# EAGLE library part TL074HIDYYR (library SamacSys_Parts)
Operational Amplifiers - Op Amps Quad, 40-V, 5-MHz, 4-mV offset voltage, 20-V/us, In to V+ op amp with -40 C to 125 C operation Source: Datasheet <https://www.ti.com/lit/ds/symlink/tl074.pdf?HQS=dis-mous-null-mousermode-dsf-pf-null-wwe&ts=1653289518838&ref_url=https%3A%2F%2Fwww.mouser.es%2F>
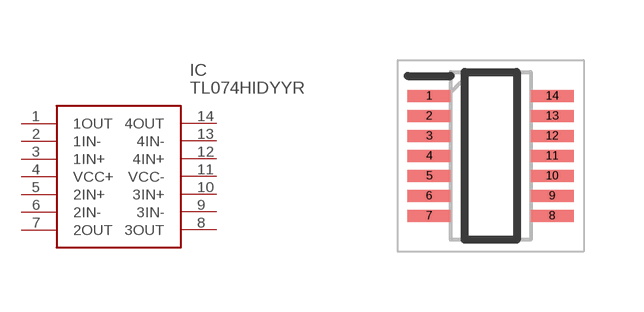
[diagram p117: symbol with the pads of SOP50P326X110-14N; footprint SOP50P326X110-14N]

Designator prefix IC

## TL074HIDYYR (DESCRIPTION: Operational Amplifiers - Op Amps Quad, 40-V, 5-MHz, 4-mV offset voltage, 20-V/us, In to V+ op amp with -40 C to 125 C operation; HEIGHT: 1.1mm; MANUFACTURER_NAME: Texas Instruments; MANUFACTURER_PART_NUMBER: TL074HIDYYR; MOUSER_PART_NUMBER: 595-TL074HIDYYR; MOUSER_PRICE-STOCK: https://www.mouser.co.uk/ProductDetail/Texas-Instruments/TL074HIDYYR?qs=Li%252BoUPsLEnudP2MOdP5hYw%3D%3D)  [SOP50P326X110-14N]
1  1OUT
2  1IN-
3  1IN+
4  VCC+
5  2IN+
6  2IN-
7  2OUT
8  3OUT
9  3IN-
10  3IN+
11  VCC-
12  4IN+
13  4IN-
14  4OUT

## Footprint SOP50P326X110-14N (pad centres in mm)
DYY0014A
smd 1.075 x 0.3: 1 -1.538,1.5; 2 -1.538,1; 3 -1.538,0.5; 4 -1.538,0; 5 -1.538,-0.5; 6 -1.538,-1; 7 -1.538,-1.5; 8 1.538,-1.5; 9 1.538,-1; 10 1.538,-0.5; 11 1.538,0; 12 1.538,0.5; 13 1.538,1; 14 1.538,1.5